# Altium footprint library SOIC8P127_585X1150X280L75X41N.PcbLib: 1 footprints
Each footprint in its own frame and in the unit in brackets; x right, y up, seen from the top. Pads: shape width x height; smd on the part's side, far side on the other; paste and mask are expansions set on the pad; w line width, h text height; cw(c..) or ccw(c..) is an arc to the next point about the centre after c.
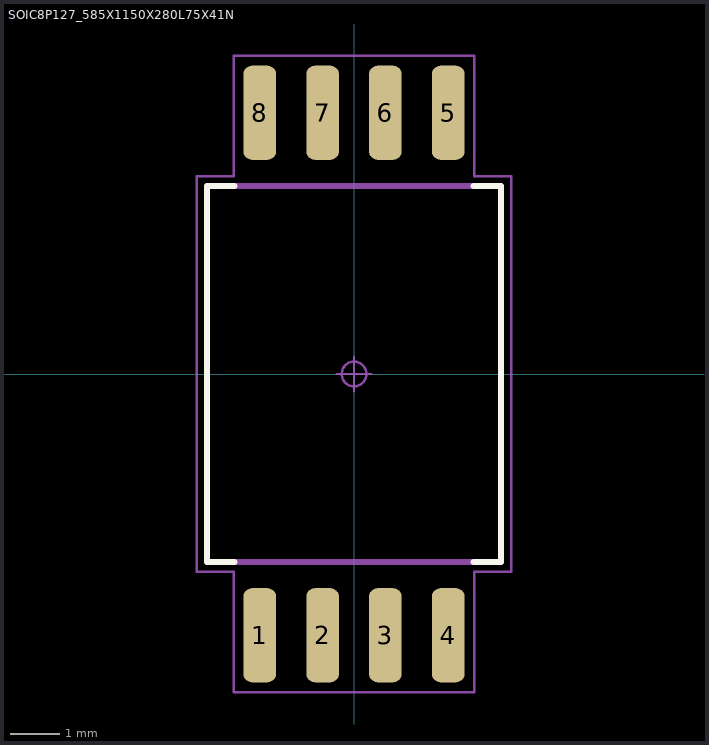
[diagram p0: the footprint, top view; thin cyan lines are the x and y axes]

## SOIC8P127_585X1150X280L75X41N [mil] "Small Outline IC (SOIC), 1.27 mm pitch; 8 pin, 5.85 mm L X 7.50 mm W X 2.80 mm H body"
height 110.24
pads (8):
  rrect50% 25.94x74.84 smd: 1(-75,-207.91) 2(-25,-207.91) 3(25,-207.91) 4(75,-207.91) 5(75,207.91) 6(25,207.91) 7(-25,207.91) 8(-75,207.91)
Top Overlay:
  lines w4.72: -95.04,-149.61 -117.13,-149.61 -117.13,149.61 -95.04,149.61 ; 95.04,-149.61 117.13,-149.61 117.13,149.61 95.04,149.61
Mechanical 3:
  lines w4.72: -117.13,-149.61 117.13,-149.61 117.13,149.61 -117.13,149.61 -117.13,-149.61
Mechanical 5:
  lines w0.98: -83.07,-226.38 -83.07,-196.85 -66.93,-196.85 -66.93,-226.38 -83.07,-226.38 ; -83.07,196.85 -83.07,226.38 -66.93,226.38 -66.93,196.85 -83.07,196.85 ; -33.07,-226.38 -33.07,-196.85 -16.93,-196.85 -16.93,-226.38 -33.07,-226.38 ; -33.07,196.85 -33.07,226.38 -16.93,226.38 -16.93,196.85 -33.07,196.85 ; 16.93,-226.38 16.93,-196.85 33.07,-196.85 33.07,-226.38 16.93,-226.38 ; 16.93,196.85 16.93,226.38 33.07,226.38 33.07,196.85 16.93,196.85 ; 66.93,-226.38 66.93,-196.85 83.07,-196.85 83.07,-226.38 66.93,-226.38 ; 66.93,196.85 66.93,226.38 83.07,226.38 83.07,196.85 66.93,196.85
Mechanical 7:
  circle w1.97: c0,0 r9.84
  lines w0.98: -115.16,-147.64 115.16,-147.64 115.16,147.64 -115.16,147.64 -115.16,-147.64
  lines w1.97: -13.78,0 13.78,0 ; 0,-13.78 0,13.78 ; -125,-157.48 -95.83,-157.48 -95.83,-253.23 95.83,-253.23 95.83,-157.48 125,-157.48 125,157.48 95.83,157.48 95.83,253.23 -95.83,253.23 -95.83,157.48 -125,157.48 -125,-157.48
3D body "SOIC8P127_585X1150X280L75X41.STEP": height 110.24, standoff 0, extent -115.16,-226.38 115.16,226.38